# Altium footprint library 2576.PcbLib: 1 footprints
Each footprint in its own frame and in the unit in brackets; x right, y up, seen from the top. Pads: shape width x height; smd on the part's side, far side on the other; paste and mask are expansions set on the pad; w line width, h text height; cw(c..) or ccw(c..) is an arc to the next point about the centre after c.
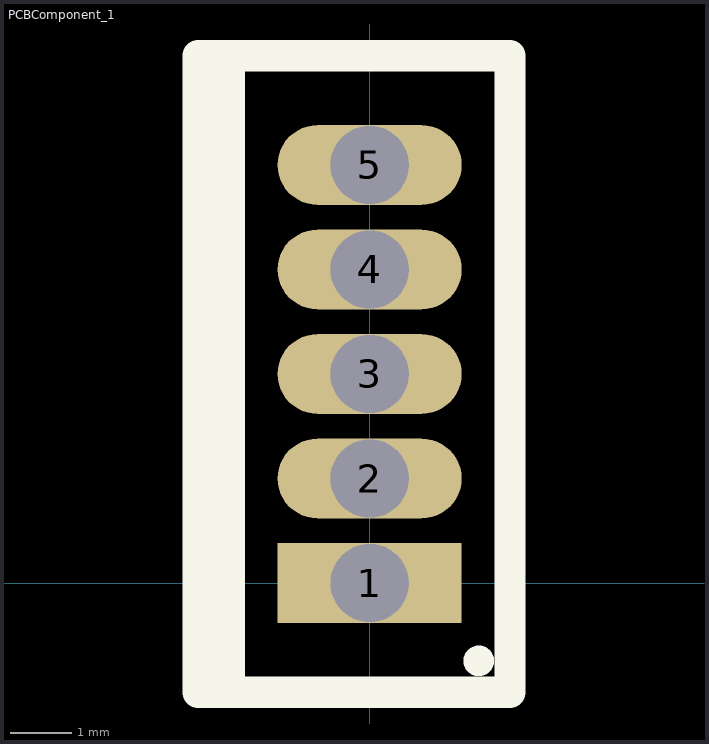
[diagram p0: the footprint, top view; thin cyan lines are the x and y axes]

## PCBComponent_1 [mm]
pads (5):
  rect 3x1.3 hole 1.27: 1(0,0)
  oval 3x1.3 hole 1.27: 2(0,1.702) 3(0,3.404) 4(0,5.105) 5(0,6.807)
Top Overlay:
  circle w0.25: c1.778,-1.268 r0.125
  lines w0.508: -2.286,-1.778 -2.286,8.585 ; -2.794,-1.778 0,-1.778 2.286,-1.778 2.286,8.585 0,8.585 -2.794,8.585 -2.794,-1.778